# Altium footprint library PCB - FUSE - MINIASMDC260F162.PcbLib: 1 footprints
Each footprint in its own frame and in the unit in brackets; x right, y up, seen from the top. Pads: shape width x height; smd on the part's side, far side on the other; paste and mask are expansions set on the pad; w line width, h text height; cw(c..) or ccw(c..) is an arc to the next point about the centre after c.
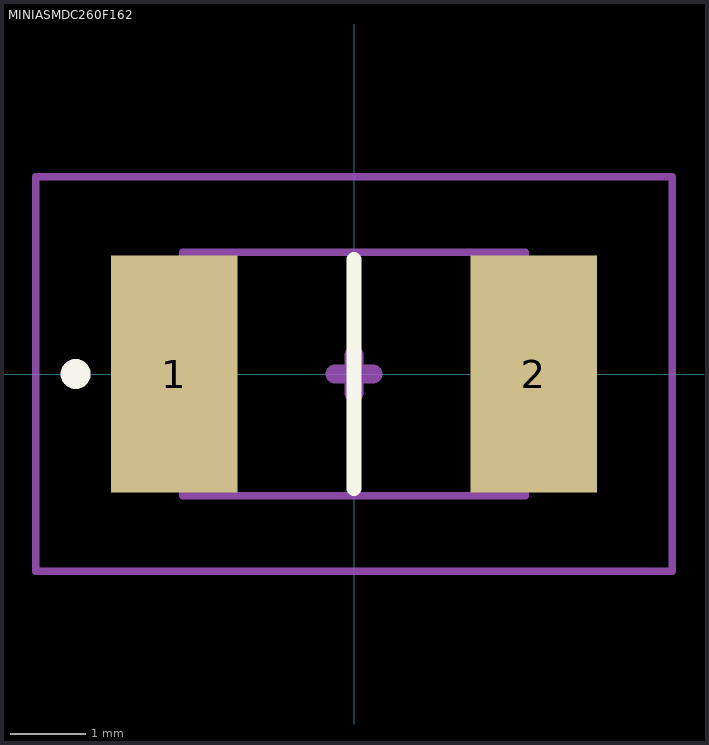
[diagram p0: the footprint, top view; thin cyan lines are the x and y axes]

## MINIASMDC260F162 [mm]
pads (2):
  rect 1.68x3.15 smd: 1(-2.39,0) 2(2.39,0)
Top Overlay:
  lines w0.2: 0,-1.52 0,1.52 ; -3.7,-0.1 ccw(c-3.7,0) -3.7,0.1 ccw(c-3.7,0) -3.7,-0.1
Top Assembly:
  lines w0.1: -2.275,-1.62 -2.275,1.62 2.275,1.62 2.275,-1.62 -2.275,-1.62
Top Courtyard:
  lines w0.1: -4.23,-2.62 4.23,-2.62 4.23,2.62 -4.23,2.62 -4.23,-2.62
Top Designator:
  text ".Designator" at -3.553,3.047 h0.75
Top Component Center:
  lines w0.254: -0.254,0 0,0 ; 0,-0.254 0,0 ; 0,0.254 0,0 ; 0.254,0 0,0
3D body "MINIASMDC110F_24-2.stp": height 1.46, standoff 0, extent -2.276,-1.621 2.276,1.621